# EAGLE library part LMR16006Y (library trainlib)
Buck regulator with 600mA output current and 2.1MHz fixed frequency. http://www.ti.com/lit/ds/symlink/lmr16006y-q1.pdf Available in sot23-6 package.
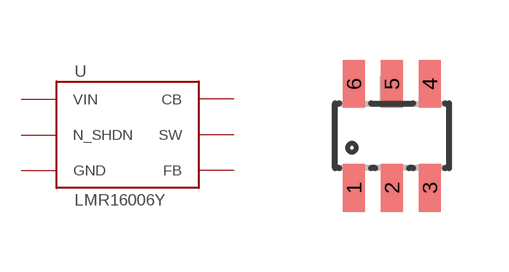
[diagram p11: symbol with the pads of SOT23-6; footprint SOT23-6]

Designator prefix -

## LMR16006Y  [SOT23-6]
1  CB
2  GND
3  FB
4  N_SHDN
5  VIN
6  SW

## Footprint SOT23-6 (pad centres in mm)
smd 0.55 x 1.2: 1 -0.95,-1.3; 2 0,-1.3; 3 0.95,-1.3; 4 0.95,1.3; 5 0,1.3; 6 -0.95,1.3